# Altium footprint library 28Pins_Project_1[1.PcbLib: 28 footprints (part 1 of 2)
Each footprint in its own frame and in the unit in brackets; x right, y up, seen from the top. Pads: shape width x height; smd on the part's side, far side on the other; paste and mask are expansions set on the pad; w line width, h text height; cw(c..) or ccw(c..) is an arc to the next point about the centre after c.
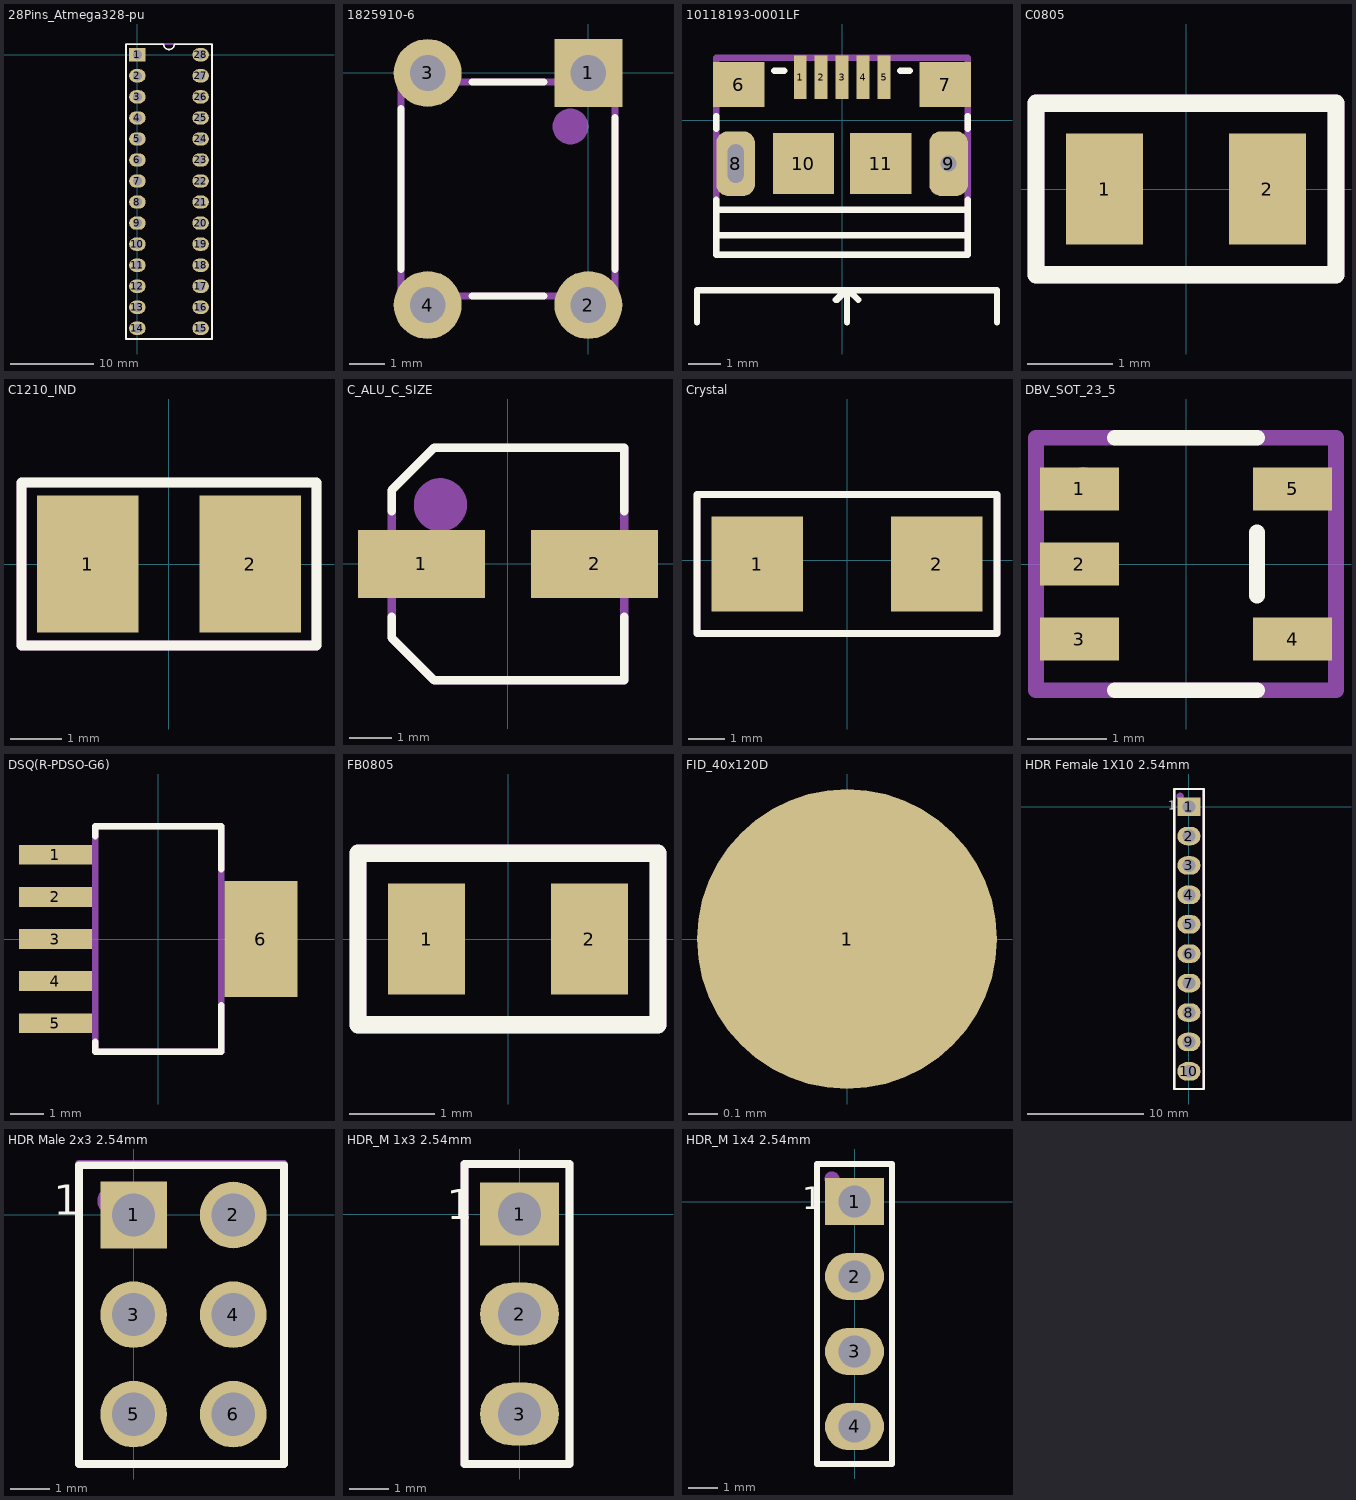
[diagram p0: the footprints below, top view; thin cyan lines are the x and y axes]

## 28_DIP_7.62mm_SOCKET [mm]
3D body "dil_socket.stp": height 4.2, standoff -3.17, extent -1.24,-34.26 8.86,1.24

## 28Pins_Atmega328-pu [mm]
pads (28):
  rect 2x1.6 hole 1.1: 1(0,0)
  oval 2x1.6 hole 1.1: 2(0,-2.54) 3(0,-5.08) 4(0,-7.62) 5(0,-10.16) 6(0,-12.7) 7(0,-15.24) 8(0,-17.78) 9(0,-20.32) 10(0,-22.86) 11(0,-25.4) 12(0,-27.94) 13(0,-30.48) 14(0,-33.02) 15(7.62,-33.02) 16(7.62,-30.48) 17(7.62,-27.94) 18(7.62,-25.4) 19(7.62,-22.86) 20(7.62,-20.32) 21(7.62,-17.78) 22(7.62,-15.24) 23(7.62,-12.7) 24(7.62,-10.16) 25(7.62,-7.62) 26(7.62,-5.08) 27(7.62,-2.54) 28(7.62,0)
Top Overlay:
  lines w0.2: -1.39,-34.31 -1.39,1.27 3.175,1.27 ccw(c3.81,1.27) 4.445,1.27 9.01,1.27 9.01,-34.31 -1.39,-34.31
Top Assembly:
  circle w0.5: c0,0 r0.29
  lines w0.254: -1.39,-34.31 -1.39,1.29 4.41,1.29 4.61,1.29 6.31,1.29 9.01,1.29 9.01,-34.31 -1.39,-34.31
  text ".Designator" at 5.1,-18.9 h3
3D body "User Library-User Library-ATmega 48_88_168_328 28P3_90DEG.step": height 7.94, standoff 0.82, extent -0.143,-33.76 7.763,0.89

## 1825910-6 [mm]
pads (4):
  rect 1.9x1.9 hole 1: 1(0,0)
  round 1.9 hole 1: 2(0,-6.5) 3(-4.5,0) 4(-4.5,-6.5)
Top Overlay:
  lines w0.2: -5.25,-5.5 -5.25,-3.25 -5.25,-1 ; -3.25,-6.25 -1.25,-6.25 ; -3.25,-0.25 -1.25,-0.25 ; 0.75,-3.25 0.75,-5.5 0.75,-1.25
Top Assembly:
  circle w0.5: c-0.5,-1.5 r0.25
  lines w0.2: -5.25,-6.25 -5.25,-0.25 -2,-0.25 0.75,-0.25 0.75,-6.25 -5.25,-6.25
  text ".Designator" at -3.5,-3.667 h1.6
3D body "User Library-FSM4JLH(1825910-5).step": height 5.01, standoff -3.5, extent -5.245,-7.148 0.745,0.65

## 10118193-0001LF [mm]
pads (11):
  rect 0.4x1.35 smd mask+0.05: 1(-1.3,1.338) 2(-0.65,1.338) 3(0,1.338) 4(0.65,1.338) 5(1.3,1.338)
  rect 1.6x1.4 smd: 6(-3.2,1.112) 7(3.2,1.112)
  rrect60% 1.2x2 hole 0.5 slot 1.2 at 90 deg mask+0.05: 8(-3.3,-1.338)
  rrect60% 1.2x2 hole 0.5 square mask+0.05: 9(3.3,-1.338)
  rect 1.9x1.9 smd: 10(-1.2,-1.338) 11(1.2,-1.338)
Top Overlay:
  lines w0.2: -4.5,-6.262 -4.5,-5.262 4.8,-5.262 4.8,-6.262 ; -3.9,-3.562 3.9,-3.562 ; -3.9,-2.762 3.9,-2.762 ; -3.9,-2.462 -3.9,-4.162 3.9,-4.162 3.9,-2.462 ; -3.9,-0.262 -3.9,0.138 ; -2.1,1.538 -1.8,1.538 ; 0.15,-6.262 0.15,-5.262 0.1,-5.262 -0.2,-5.562 -0.15,-5.562 0.125,-5.287 0.225,-5.287 0.5,-5.562 ; 1.8,1.538 2.1,1.538 ; 3.9,-0.262 3.9,0.138
Top Assembly:
  lines w0.2: -3.9,-4.162 3.9,-4.162 3.9,1.937 3.3,1.937 -3.9,1.938 -3.9,-4.162
  text ".Designator" at -0.2,-1.1 h1.5
3D body "10118193-0001lfc.stp": height 2.88, standoff -0.92, extent -3.928,-4.196 3.928,1.587

## C0805 [mm]
pads (2):
  rect 0.9x1.3 smd: 1(-0.95,0) 2(0.95,0)
Top Overlay:
  lines w0.2: -1.75,-1 -1.75,1 1.75,1 1.75,-1 -1.75,-1
Top Assembly:
  lines w0.2: -1.75,-1 -1.75,1 1.75,1 1.75,-1 -1.75,-1
  text ".Designator" at -0.9,-0.7 h0.6
3D body "CAPC2012X94N EIA 0805.step": height 1.45, standoff 0.51, extent -0.9,-0.6 1.1,0.6
3D body "CAPC2012X94N EIA 0805.step": height 0.95, standoff 0.01, extent -0.9,-0.6 1.1,0.6

## C1210_IND [mm]
pads (2):
  rect 2x2.7 smd: 1(-1.6,0) 2(1.6,0)
Top Overlay:
  lines w0.2: -2.9,-1.6 2.9,-1.6 2.9,1.6 -2.9,1.6 -2.9,-1.6
Top Assembly:
  lines w0.2: -2.9,-1.6 -2.9,1.6 2.9,1.6 2.9,-1.6 -2.9,-1.6
  text ".Designator" at -2.45,-0.917 h1
3D body: height 2.7, standoff -0.01, extent -1.7,-1.25 -1.5,1.25
3D body: height 2.7, standoff -0.01, extent -1,0 -1,0
3D body: height 2.7, standoff -0.01, extent 4.3,0 4.3,0
3D body: height 2.7, standoff -0.01, extent 1.5,-1.25 1.7,1.25
3D body: height 2.7, standoff -0.01, extent -1.5,-1.25 1.5,1.25
3D body: height 2.7, standoff -0.01, extent 4.5,-0.5 4.5,-0.5

## C_ALU_C_SIZE [mm]
pads (2):
  rect 3x1.6 smd: 1(-2.05,0) 2(2.05,0)
Top Overlay:
  lines w0.2: -2.75,-1.25 -2.75,-1.75 -1.75,-2.75 2.75,-2.75 2.75,-1.25 ; -2.75,1.25 -2.75,1.75 -1.75,2.75 2.75,2.75 2.75,1.25
Top Assembly:
  circle w0.762: c-1.6,1.4 r0.25
  lines w0.2: -2.75,-1.75 -2.75,1.75 -1.75,2.75 2.75,2.75 2.75,2.5 2.75,-2.75 -1.75,-2.75 -2.75,-1.75
  text ".Designator" at -2.05,-1.867 h1.3
3D body "User Library-capacitor size C.step": height 5.42, standoff 0.01, extent -2.95,-2.65 2.95,2.65

## Crystal [mm]
pads (2):
  rect 2.5x2.6 smd: 1(-2.45,-0.1) 2(2.45,-0.1)
Top Overlay:
  lines w0.2: -4.1,-2 4.1,-2 4.1,1.8 -4.1,1.8 -4.1,-2
Top Assembly:
  lines w0.2: -4.1,-2 4.1,-2 4.1,1.8 -4.1,1.8 -4.1,-2
  text ".Designator" at -2.9,-1.267 h1.6
3D body "ABM7.STEP": height 1.41, standoff 0.01, extent -2.888,-1.95 3.107,1.555

## DBV_SOT_23_5 [mm]
pads (5):
  rect 1x0.55 smd: 1(-1.35,0.95) 2(-1.35,0) 3(-1.35,-0.95) 4(1.35,-0.95) 5(1.35,0.95)
Top Overlay:
  lines w0.2: -0.9,-1.6 0.9,-1.6 ; -0.9,1.6 0.9,1.6 ; 0.9,-0.4 0.9,0.4
Top Assembly:
  circle w0.254: c-1.3,1 r0.1
  lines w0.2: -1.9,-1.6 -1.9,1.6 1.9,1.6 1.9,-1.6 -1.9,-1.6
  text ".Designator" at -1.2,-0.3 h0.6
3D body "User Library-TPS79333DBVR.step": height 1.61, standoff -0.01, extent -1.513,-1.525 1.514,1.525

## DSQ(R-PDSO-G6) [mm]
pads (6):
  rect 2.2x0.6 smd: 1(-3.1,2.54) 2(-3.1,1.27) 3(-3.1,0) 4(-3.1,-1.27) 5(-3.1,-2.54)
  rect 2.2x3.5 smd: 6(3.1,0)
Top Overlay:
  lines w0.2: -1.9,-3.1 -1.9,-3.4 1.9,-3.4 1.9,-2 ; -1.9,3.1 -1.9,3.4 1.9,3.4 1.9,2.1
Top Assembly:
  lines w0.2: -1.9,-3.4 -1.9,-3.25 -1.9,3.4 -1.4,3.4 1.9,3.4 1.9,-3.4 -1.9,-3.4
  text ".Designator" at 0.053,-0.07 h1.25
3D body "User Library-TPS73701DCQ.step": height 1.79, standoff -0.01, extent -3.33,-3.275 3.93,3.275

## FB0805 [mm]
pads (2):
  rect 0.9x1.3 smd: 1(-0.95,0) 2(0.95,0)
Top Overlay:
  lines w0.2: -1.75,-1 1.75,-1 1.75,1 -1.75,1 -1.75,-1
Top Assembly:
  lines w0.2: -1.75,-1 -1.75,1 1.75,1 1.75,-1 -1.75,-1
  text ".Designator" at -0.8,-0.7 h0.6
3D body "User Library-ind_0805.step": height 0.95, standoff 0, extent -1,-0.6 1,0.6
3D body "User Library-ind_0805.step": height 0.95, standoff 0, extent -1,-0.6 1,0.6

## FID_40x120D [mil]
pads (1):
  round 40 smd paste-1574.8 mask+40: 1(0,0)

## HDR Female 1X10 2.54mm [mm] "J?"
pads (10):
  rect 2x1.6 hole 1.1: 1(0,0)
  oval 2x1.6 hole 1.1: 2(0,-2.54) 3(0,-5.08) 4(0,-7.62) 5(0,-10.16) 6(0,-12.7) 7(0,-15.24) 8(0,-17.78) 9(0,-20.32) 10(0,-22.86)
Top Overlay:
  lines w0.2: -1.27,-24.384 1.27,-24.384 1.27,-16.256 1.27,-9.652 1.27,-4.572 1.27,-0.254 1.27,1.524 -1.27,1.524 -1.27,-24.384
  text "1" at -1.778,-0.254 h0.76
Bottom 3D Body:
  circle w0.381: c-0.762,0.889 r0.127
Top Assembly:
  lines w0.2: -1.27,-24.384 -1.27,1.27 -1.27,1.524 1.27,1.524 1.27,-24.384 -1.27,-24.384
  text ".Designator" at 0.523,-15.046 h1.27
3D body: height 0.25, standoff 0, extent -1.27,-24.376 1.27,1.524

## HDR Male 2x3 2.54mm [mm]
pads (6):
  rect 1.7x1.7 hole 1.1: 1(0,0)
  round 1.7 hole 1.1: 2(2.54,0) 3(0,-2.54) 4(2.54,-2.54) 5(0,-5.08) 6(2.54,-5.08)
Top Overlay:
  lines w0.2: -1.397,-6.35 3.835,-6.35 3.835,1.27 -1.397,1.27 -1.397,-6.35
  text "1" at -2.032,0 h0.76
Top Assembly:
  circle w0.5: c-0.53,0.36 r0.141
  lines w0.2: -1.4,1.3 3.835,1.3 3.835,-6.071 3.835,-6.35 -1.397,-6.35 -1.397,1.27
  text ".Designator" at 2.767,-3.1 h1
3D body "961206-6404-XX.stp": height 8.01, standoff -3.29, extent -1.28,-6.35 3.72,1.27

## HDR_M 1x3 2.54mm [mm]
pads (3):
  rect 2x1.6 hole 1.1: 1(0,0)
  oval 2x1.6 hole 1.1: 2(0,-2.54) 3(0,-5.08)
Top Overlay:
  lines w0.2: -1.397,-6.35 1.27,-6.35 1.27,1.27 -1.397,1.27 -1.397,-6.35
  text "1" at -1.854,-0.127 h0.76
Top Assembly:
  lines w0.2: -1.397,-6.35 -1.397,1.27 1.27,1.27 1.27,-6.35 -1.397,-6.35
  text ".Designator" at 0.667,-5.3 h1
3D body "HDR_1x3_White.stp": height 8.39, standoff -3.11, extent -1.27,-6.15 1.14,1.07

## HDR_M 1x4 2.54mm [mm]
pads (4):
  rect 2x1.6 hole 1.1: 1(0,0)
  oval 2x1.6 hole 1.1: 2(0,-2.54) 3(0,-5.08) 4(0,-7.62)
Top Overlay:
  lines w0.2: -1.27,-8.89 -1.27,1.27 1.27,1.27 1.27,-8.89 -1.27,-8.89
  text "1" at -1.778,-0.254 h0.76
Top Assembly:
  circle w0.254: c-0.762,0.762 r0.127
  lines w0.2: -1.27,-8.89 1.27,-8.89 1.27,1.27 -1.27,1.27 -1.27,-8.89
  text ".Designator" at 0.847,-8.636 h1.27
3D body "HDR_1x4_White.stp": height 8.39, standoff -3.11, extent -1.14,-8.69 1.27,1.07